# Altium schematic symbol library Sky_Schlib.SchLib: 9 symbols
Pins are listed as number, name and electrical type; pins without a type are passive.

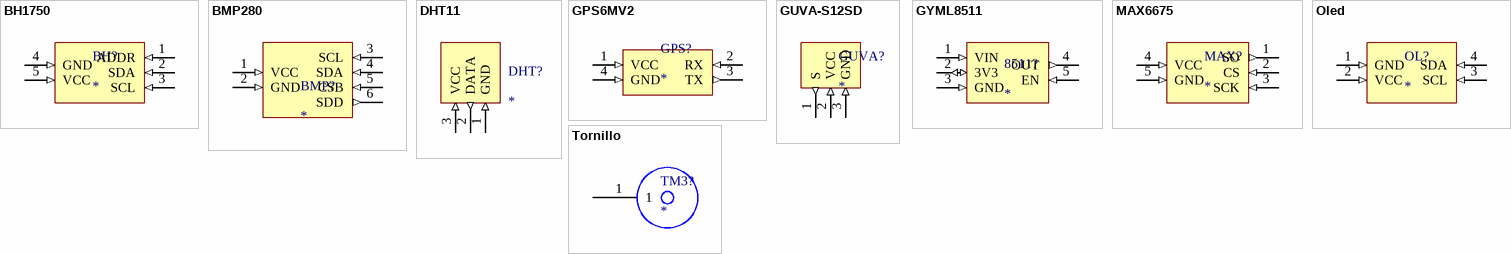
[diagram p0: symbols BH1750 to Tornillo]

## BH1750
designator BH?
footprint BH1750
pins: 1 ADDR (in), 2 SDA (in), 3 SCL (in), 4 GND (in), 5 VCC (in)

## BMP280
designator BMP?
footprint BMP280
pins: 1 VCC (in), 2 GND (in), 3 SCL (in), 4 SDA (in), 5 CSB (in), 6 SDD (out)

## DHT11
designator DHT?
footprint DHT11
pins: 1 GND (in), 2 DATA (out), 3 VCC (in)

## GPS6MV2
designator GPS?
footprint GPS
pins: 1 VCC (in), 2 RX (in), 3 TX (out), 4 GND (in)

## GUVA-S12SD
designator GUVA?
pins: 1 S (out), 2 VCC (in), 3 GND (in)

## GYML8511
designator 8511?
footprint GYML8511
pins: 1 VIN (in), 2 3V3 (io), 3 GND (in), 4 OUT (out), 5 EN (in)

## MAX6675
designator MAX?
footprint MAX6675
pins: 1 SO (out), 2 CS (in), 3 SCK (in), 4 VCC (in), 5 GND (in)

## Oled
designator OL?
pins: 1 GND (in), 2 VCC (in), 3 SCL (in), 4 SDA (in)

## Tornillo
designator TM3?
footprint Tornillo M3
pins: 1